# EAGLE library part ADAFRUIT-XTSD (library GlacTracker)
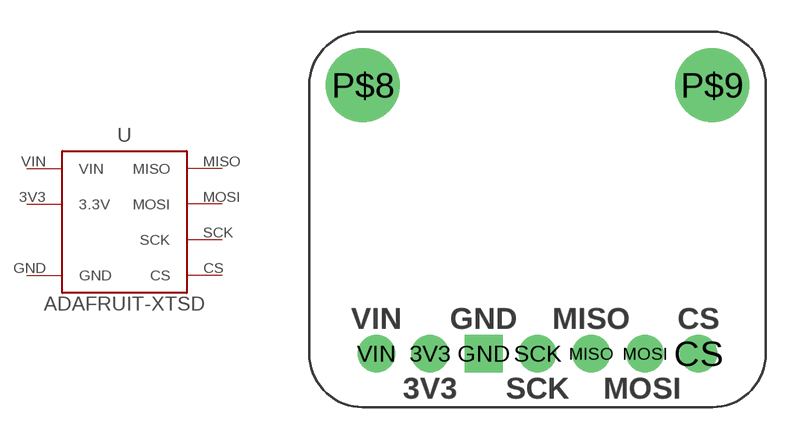
[diagram p8: symbol with the pads of ADAFRUIT-XTSD; footprint ADAFRUIT-XTSD]

Designator prefix -

## ADAFRUIT-XTSD  [ADAFRUIT-XTSD]
3V3  3.3V
CS  CS
GND  GND
MISO  MISO
MOSI  MOSI
SCK  SCK
VIN  VIN

## Footprint ADAFRUIT-XTSD (pad centres in mm)
drill 1.003 pad 1.778: 3V3 5.715,2.54; CS 18.415,2.54; MISO 13.335,2.54; MOSI 15.875,2.54; SCK 10.795,2.54; VIN 3.175,2.54
drill 1.003 pad 1.778 square: GND 8.255,2.54
drill 2.489: P$8 2.54,15.24; P$9 19.05,15.24